# Altium schematic symbol library CTX318LVCT.SchLib: 1 symbol
Pins are listed as number, name and electrical type; pins without a type are passive.

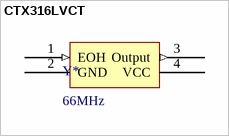
[diagram p0: symbol CTX316LVCT]

## CTX316LVCT
designator Y*, comment 66MHz
OSC 66.0000 MHZ 3.3V SMD; ComponentLink1URL: http://www.ctscorp.com/components/Datasheets/008-0256-0_F.pdf; ComponentLink1Description: Datasheet
footprint 4-SMD
pins: 1 EOH (in), 2 GND (power), 3 Output (out), 4 VCC (power)